# Altium footprint library XFDFN-6.PcbLib: 1 footprints
Each footprint in its own frame and in the unit in brackets; x right, y up, seen from the top. Pads: shape width x height; smd on the part's side, far side on the other; paste and mask are expansions set on the pad; w line width, h text height; cw(c..) or ccw(c..) is an arc to the next point about the centre after c.
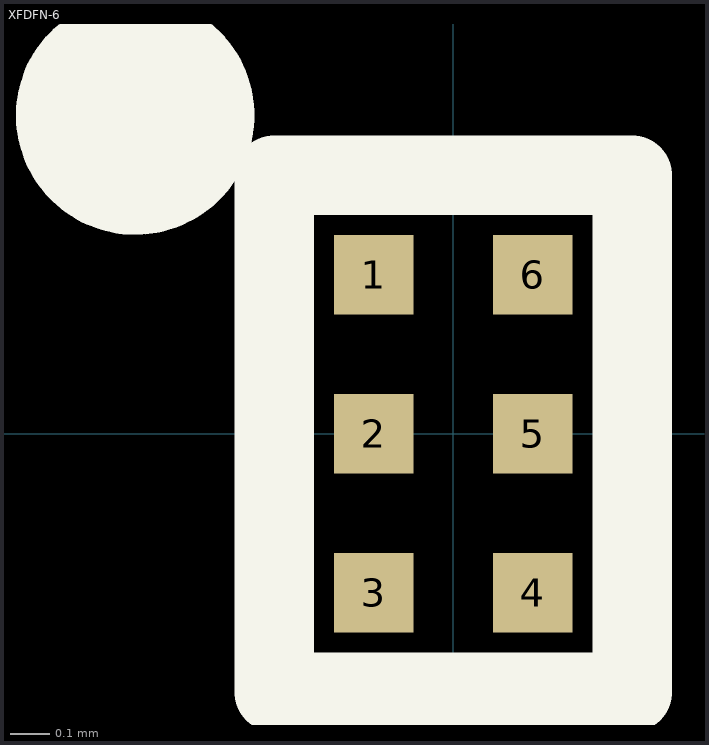
[diagram p0: the footprint, top view; thin cyan lines are the x and y axes]

## XFDFN-6 [mm]
pads (6):
  rect 0.2x0.2 smd paste+0 mask+0.05: 1(-0.2,0.4) 2(-0.2,0) 3(-0.2,-0.4) 4(0.2,-0.4) 5(0.2,0) 6(0.2,0.4)
Top Overlay:
  circle w0.3: c-0.8,0.8 r0.15
  lines w0.2: -0.45,-0.65 0.45,-0.65 0.45,0.65 -0.45,0.65 -0.45,-0.65
Top Assembly:
  circle w0.2: c-0.8,0.8 r0.1
  lines w0.1: -0.45,-0.65 0.45,-0.65 0.45,0.65 -0.45,0.65 -0.45,-0.65
  text "'.Designator'" at 0,0 h0.7
3D body "User Library-6-XFDFN-1.STEP": height 0.38, standoff -0.02, extent -0.35,-0.55 0.35,0.55